# Altium schematic symbol library SMDB03CE3_TR7.Schlib: 1 symbol
Pins are listed as number, name and electrical type; pins without a type are passive.

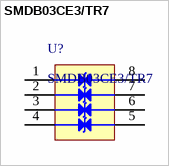
[diagram p0: symbol SMDB03CE3/TR7]

## SMDB03CE3/TR7
designator U?
9V Clamp 5A (8/20µs) Ipp Tvs Diode Surface Mount 8-SO
pins: 1, 2, 3, 4, 5, 6, 7, 8